# EAGLE library part LSM303D (library IMU_parts)
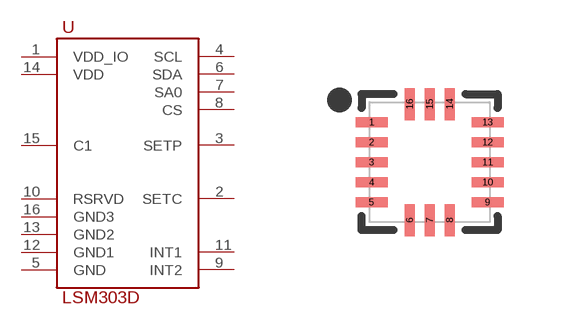
[diagram p1: symbol with the pads of LGA16_3X3MM; footprint LGA16_3X3MM]

Designator prefix -

## LSM303D (CREATOR: Chris; REVIEWER1: Brandon)  [LGA16_3X3MM]
1  VDD_IO
2  SETC
3  SETP
4  SCL
5  GND
6  SDA
7  SA0
8  CS
9  INT2
10  RSRVD
11  INT1
12  GND1
13  GND2
14  VDD
15  C1
16  GND3

## Footprint LGA16_3X3MM (pad centres in mm)
smd 0.8 x 0.25: 1 -1.45,1; 2 -1.45,0.5; 3 -1.45,0; 4 -1.45,-0.5; 5 -1.45,-1; 9 1.45,-1; 10 1.45,-0.5; 11 1.45,0; 12 1.45,0.5; 13 1.45,1
smd 0.25 x 0.8: 6 -0.5,-1.45; 7 0,-1.45; 8 0.5,-1.45; 14 0.5,1.45; 15 0,1.45; 16 -0.5,1.45